# Altium footprint library SC70-5.PcbLib: 1 footprints
Each footprint in its own frame and in the unit in brackets; x right, y up, seen from the top. Pads: shape width x height; smd on the part's side, far side on the other; paste and mask are expansions set on the pad; w line width, h text height; cw(c..) or ccw(c..) is an arc to the next point about the centre after c.
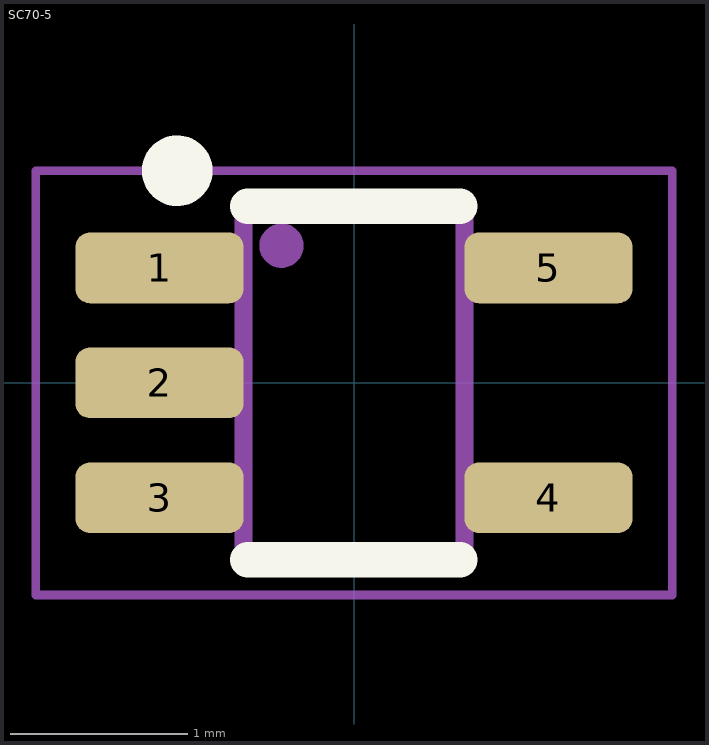
[diagram p0: the footprint, top view; thin cyan lines are the x and y axes]

## SC70-5 [mm]
height 1.1
pads (5):
  rrect40% 0.95x0.4 smd mask+0.07: 1(-1.1,0.65) 2(-1.1,0) 3(-1.1,-0.65) 4(1.1,-0.65) 5(1.1,0.65)
Top Overlay:
  circle w0.2: c-1,1.2 r0.1
  lines w0.2: -0.6,-1 0.6,-1 ; -0.6,1 0.6,1
Top Assembly:
  circle w0.15: c-0.41,0.776 r0.05
  lines w0.1: -0.625,-1 0.625,-1 0.625,1 -0.625,1 -0.625,-1
Top Courtyard:
  lines w0.05: -1.8,-1.2 -1.8,1.2 1.8,1.2 1.8,-1.2 -1.8,-1.2
Top Designator:
  text ".Designator" at 0.133,-1.999 h0.4
3D body "User Library-SC70-5-1.step": height 0.95, standoff 0, extent -1.05,-1 1.05,1